# EAGLE library part 1X07 (library openct)
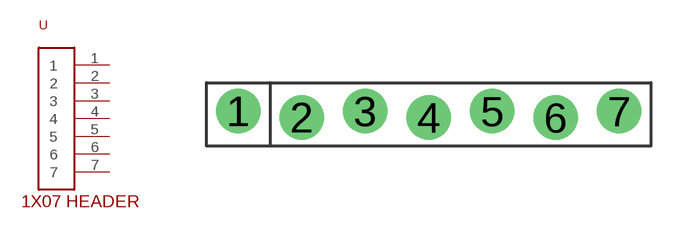
[diagram p5: symbol with the pads of 1X07; footprint 1X07]

Designator prefix -

## 1X07  [1X07]
1  1
2  2
3  3
4  4
5  5
6  6
7  7

## Footprint 1X07 (pad centres in mm)
drill 1.016 pad 1.778: 1 -7.62,0.127; 2 -5.08,-0.127; 3 -2.54,0.127; 4 0,-0.127; 5 2.54,0.127; 6 5.08,-0.127; 7 7.62,0.127